# EAGLE library part MCP2562E-SN (library MCP2021_MCP2562)
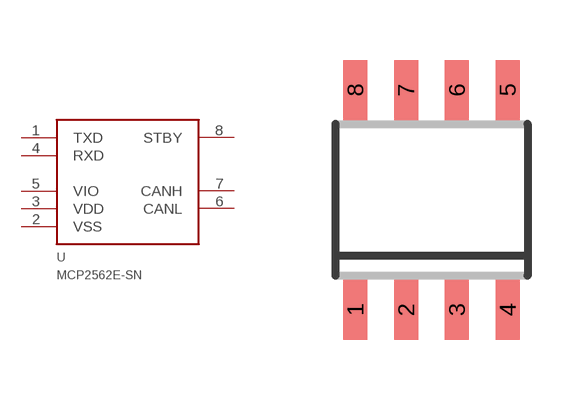
[diagram p0: symbol with the pads of SOIC8; footprint SOIC8]

Designator prefix U

## MCP2562E-SN  [SOIC8]
1  TXD
2  VSS
3  VDD
4  RXD
5  VIO
6  CANL
7  CANH
8  STBY

## Footprint SOIC8 (pad centres in mm)
SOIC-8 CASE 751-07 Source: http://www.onsemi.com/pub/Collateral/MC34164-D.PDF D (R-PDSO-G8)PLATIC SMALL-OUTLINE PACKAGE Source: http://focus.ti.com/lit/ds/symlink/tlc27l2.pdf
smd 0.6 x 1.5: 1 -1.905,-2.75; 2 -0.635,-2.75; 3 0.635,-2.75; 4 1.905,-2.75; 5 1.905,2.75; 6 0.635,2.75; 7 -0.635,2.75; 8 -1.905,2.75